# Altium footprint library Passives.PcbLib: 62 footprints (part 1 of 4)
Each footprint in its own frame and in the unit in brackets; x right, y up, seen from the top. Pads: shape width x height; smd on the part's side, far side on the other; paste and mask are expansions set on the pad; w line width, h text height; cw(c..) or ccw(c..) is an arc to the next point about the centre after c.
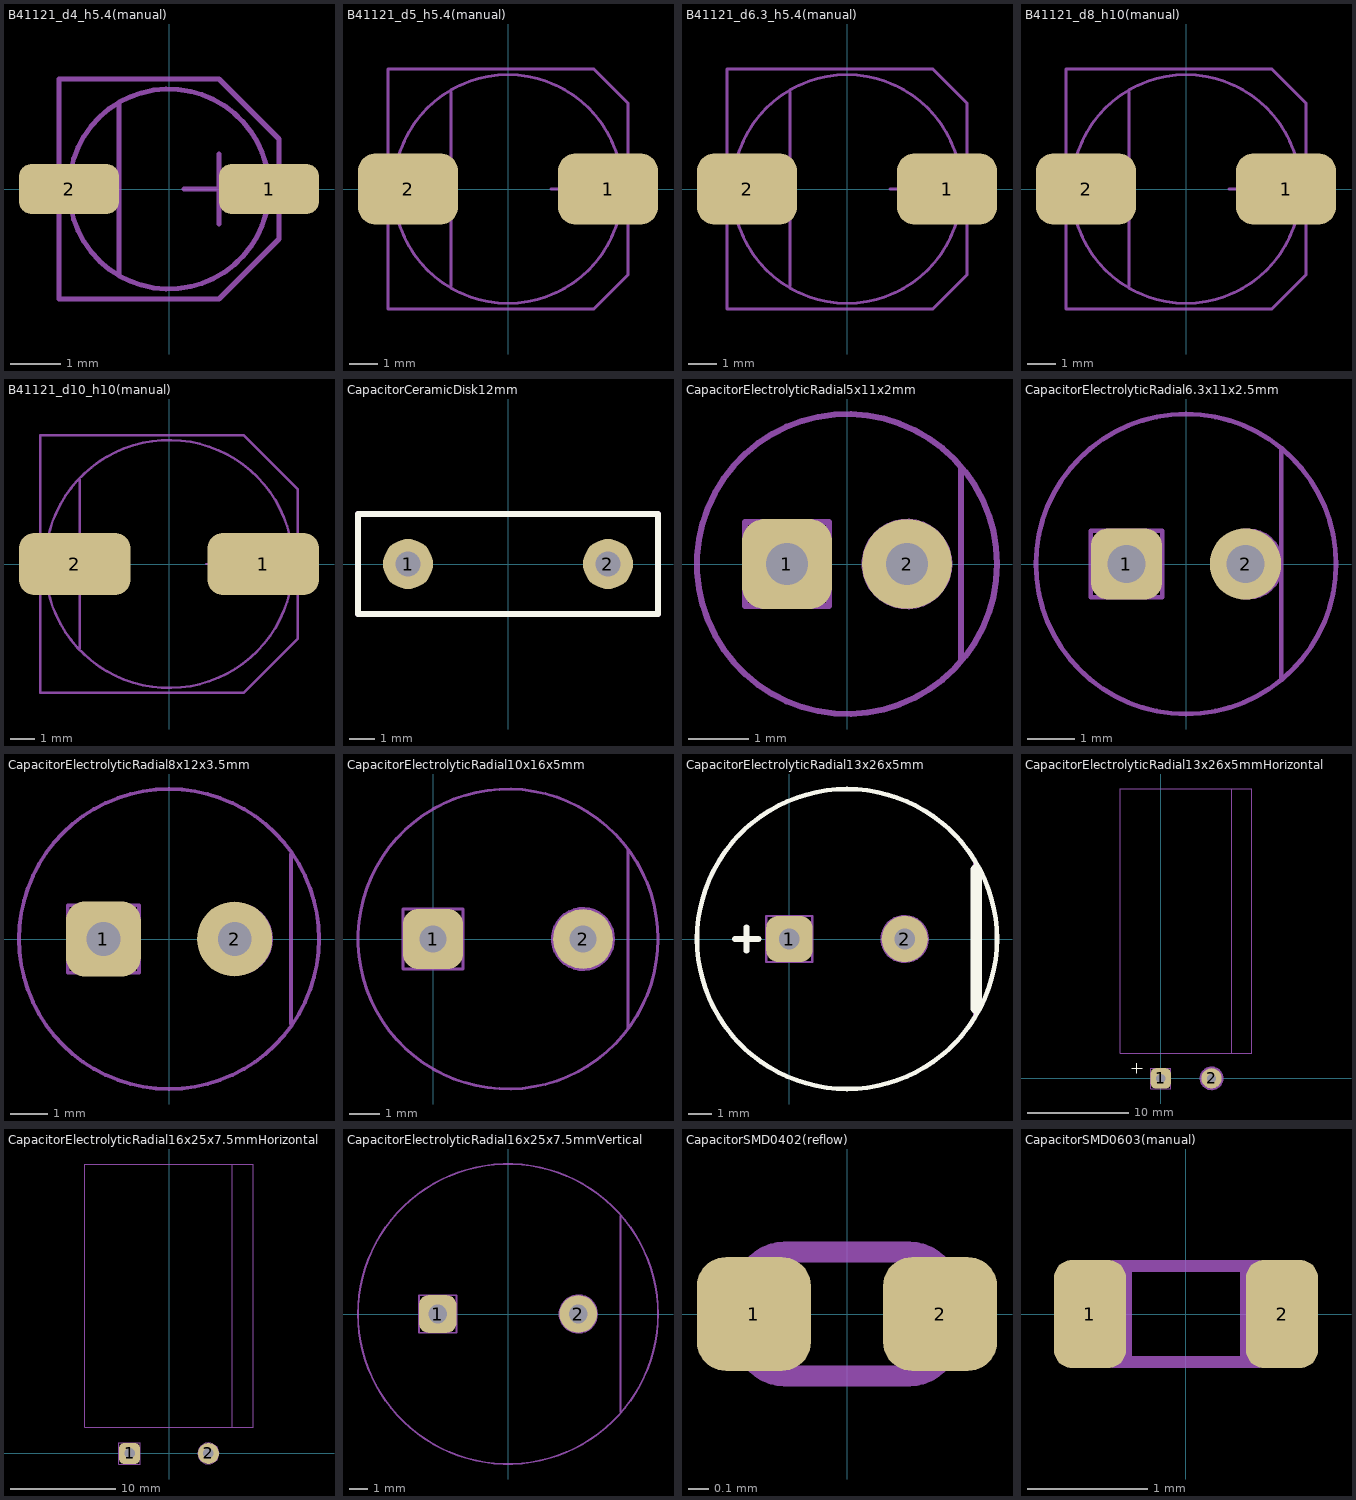
[diagram p0: the footprints below, top view; thin cyan lines are the x and y axes]

## B41121_d4_h5.4(manual) [mm]
pads (2):
  rrect50% 2x1 smd: 1(2,0) 2(-2,0)
Mechanical 1:
  circle w0.1: c0,0 r2
  lines w0.1: -1,-1.7 -1,1.7 ; 0.3,0 1.7,0 ; 1,-0.7 1,0.7 ; -2.2,-2.2 1,-2.2 2.2,-1 2.2,-0.5 2.2,1 1,2.2 -2.2,2.2 -2.2,-2.2
Mechanical 13:
  text ".Designator" at -0.9,-2.4 h1
3D body: height 1, standoff 0, extent -2.2,1 -1,2.2
3D body: height 1, standoff 0, extent -2.2,-2.2 -1,-1
3D body: height 0.5, standoff 0, extent -2.2,-2.2 2.2,2.2
3D body: height 5.4, standoff 0.1, extent -1.984,-1.996 2,1.996
3D body: height 5.5, standoff 5.4, extent -1.9,-1.35 -1.05,1.35

## B41121_d5_h5.4(manual) [mm]
pads (2):
  rrect50% 3.5x2.5 smd: 1(3.5,0) 2(-3.5,0)
Mechanical 1:
  circle w0.1: c0,0 r4
  lines w0.1: -2,-3.4 -2,3.4 ; 1.5,0 3.5,0 ; 2.5,-1 2.5,1 ; -4.2,-4.2 -4.2,4.2 3,4.2 4.2,3 4.2,-3 3,-4.2 -4.2,-4.2
Mechanical 13:
  text ".Designator" at -0.9,-2.4 h1
3D body: height 10.1, standoff 10, extent -3.5,-3 -2,3
3D body: height 10, standoff 0, extent -3.968,-3.992 4,3.992
3D body: height 1, standoff 0, extent -4.2,-4.2 4.2,4.2
3D body: height 2, standoff 0, extent -4.2,-4.2 -1.6,-1.6
3D body: height 2, standoff 0, extent -4.2,1.6 -1.6,4.2

## B41121_d6.3_h5.4(manual) [mm]
pads (2):
  rrect50% 3.5x2.5 smd: 1(3.5,0) 2(-3.5,0)
Mechanical 1:
  circle w0.1: c0,0 r4
  lines w0.1: -2,-3.4 -2,3.4 ; 1.5,0 3.5,0 ; 2.5,-1 2.5,1 ; -4.2,-4.2 -4.2,4.2 3,4.2 4.2,3 4.2,-3 3,-4.2 -4.2,-4.2
Mechanical 13:
  text ".Designator" at -0.9,-2.4 h1
3D body: height 10.1, standoff 10, extent -3.5,-3 -2,3
3D body: height 10, standoff 0, extent -3.968,-3.992 4,3.992
3D body: height 1, standoff 0, extent -4.2,-4.2 4.2,4.2
3D body: height 2, standoff 0, extent -4.2,-4.2 -1.6,-1.6
3D body: height 2, standoff 0, extent -4.2,1.6 -1.6,4.2

## B41121_d8_h10(manual) [mm]
pads (2):
  rrect50% 3.5x2.5 smd: 1(3.5,0) 2(-3.5,0)
Mechanical 1:
  circle w0.1: c0,0 r4
  lines w0.1: -2,-3.4 -2,3.4 ; 1.5,0 3.5,0 ; 2.5,-1 2.5,1 ; -4.2,-4.2 -4.2,4.2 3,4.2 4.2,3 4.2,-3 3,-4.2 -4.2,-4.2
Mechanical 13:
  text ".Designator" at -0.9,-2.4 h1
3D body: height 10.1, standoff 10, extent -3.5,-3 -2,3
3D body: height 10.1, standoff 0.1, extent -3.968,-3.992 4,3.992
3D body: height 1, standoff 0, extent -4.2,-4.2 4.2,4.2
3D body: height 2, standoff 0, extent -4.2,-4.2 -1.6,-1.6
3D body: height 2, standoff 0, extent -4.2,1.6 -1.6,4.2

## B41121_d10_h10(manual) [mm]
pads (2):
  rrect50% 4.5x2.5 smd: 1(3.8,0) 2(-3.8,0)
Mechanical 1:
  circle w0.1: c0,0 r5
  lines w0.1: -3.6,-3.4 -3.6,3.4 ; 1.5,0 3.5,0 ; 2.5,-1 2.5,1 ; -5.2,-5.2 3,-5.2 5.2,-3 5.2,3 3,5.2 -5.2,5.2 -5.2,-5.2
Mechanical 13:
  text ".Designator" at -0.9,-2.4 h1
3D body: height 2, standoff 0, extent -5.2,2.6 -2.6,5.2
3D body: height 2, standoff 0, extent -5.2,-5.2 -2.6,-2.6
3D body: height 1, standoff 0, extent -5.2,-5.2 5.2,5.2
3D body: height 10.1, standoff 0.1, extent -4.96,-4.99 5,4.99
3D body: height 10.1, standoff 10, extent -4.55,-3.55 -2.5,3.55

## CapacitorCeramicDisk12mm [mm]
pads (2):
  round 2 hole 1: 1(-4,0) 2(4,0)
Top Overlay:
  lines w0.254: -6,-2 -6,2 6,2 6,-2 -6,-2
Mechanical 1:
  lines w0.254: -6,-2 -6,2 6,2 6,-2 -6,-2
3D body: height 13.99, standoff 2.01, extent -6,-2 5.953,2

## CapacitorElectrolyticRadial5x11x2mm [mm]
height 12
pads (2):
  rrect50% 1.5x1.5 hole 0.7: 1(-1,0)
  round 1.5 hole 0.7: 2(1,0)
Mechanical 1:
  circle w0.1: c0,0 r2.5
  lines w0.1: 1.9,-1.6 1.9,1.6
Mechanical 4:
  circle w0.1: c1,0 r0.707
  lines w0.1: -1.7,-0.7 -0.3,-0.7 -0.3,0.7 -1.7,0.7 -1.7,-0.7
Mechanical 13:
  text ".Designator" at -1.75,1.75 h1
3D body: height 11, standoff 0, extent -2.49,-2.49 2.49,2.5

## CapacitorElectrolyticRadial6.3x11x2.5mm [mm]
height 12
pads (2):
  rrect50% 1.5x1.5 hole 0.8: 1(-1.25,0)
  round 1.5 hole 0.8: 2(1.25,0)
Mechanical 1:
  circle w0.1: c0,0 r3.15
  lines w0.1: 2,-2.4 2,2.4
Mechanical 4:
  circle w0.1: c1.3,0 r0.7
  lines w0.1: -2,-0.7 -0.5,-0.7 -0.5,0.7 -2,0.7 -2,-0.7
Mechanical 13:
  text ".Designator" at -1.75,1.75 h1
3D body: height 11, standoff 0, extent 3,-0.5 3.2,0.5
3D body: height 11, standoff 0, extent -3.1,-3.144 3.175,3.144

## CapacitorElectrolyticRadial8x12x3.5mm [mm]
height 12
pads (2):
  rrect50% 2x2 hole 0.9: 1(-1.75,0)
  round 2 hole 0.9: 2(1.75,0)
Mechanical 1:
  circle w0.1: c0,0 r4
  lines w0.1: 3.25,-2.25 3.25,2.25
Mechanical 4:
  circle w0.1: c1.8,0 r0.922
  lines w0.1: -2.7,-0.9 -2.7,0.9 -0.8,0.9 -0.8,-0.9 -2.7,-0.9
Mechanical 13:
  text ".Designator" at -1.75,1.75 h1
3D body: height 12, standoff 0, extent -3.984,-3.984 3.984,4
3D body: height 12, standoff 0, extent 4,-1 4.1,1

## CapacitorElectrolyticRadial10x16x5mm [mm]
height 16
pads (2):
  rrect50% 2x2 hole 0.9: 1(0,0)
  round 2 hole 0.9: 2(5,0)
Mechanical 1:
  circle w0.1: c2.5,0 r5
  lines w0.1: 6.5,-3 6.5,3
Mechanical 4:
  circle w0.1: c5,0 r1.02
  lines w0.1: -1,-1 -1,1 1,1 1,-1 -1,-1
Mechanical 13:
  text ".Designator" at 0.5,1.5 h1
3D body: height 16, standoff 0, extent -2.48,-5 7.48,4.98

## CapacitorElectrolyticRadial13x26x5mm [mm]
height 26
pads (2):
  rrect50% 2x2 hole 0.9: 1(0,0)
  round 2 hole 0.9: 2(5,0)
Top Overlay:
  circle w0.2: c2.5,0 r6.5
  lines w0.254: -2.358,0 -1.342,0 ; -1.85,-0.508 -1.85,0.508
  lines w0.5: 8.1,-3 8.1,3
Mechanical 1:
  circle w0.1: c2.5,0 r6.5
  lines w0.1: 8,-3.5 8,3.5
Mechanical 4:
  circle w0.1: c5,0 r1
  lines w0.1: -1,-1 1,-1 1,1 -1,1 -1,-1
Mechanical 13:
  text ".Designator" at 0.25,3 h1
3D body: height 26, standoff 0, extent -3.974,-6.474 8.974,6.5

## CapacitorElectrolyticRadial13x26x5mmHorizontal [mm]
height 26
pads (2):
  rrect50% 2x2 hole 0.9: 1(0,0)
  round 2 hole 0.9: 2(5,0)
Top Overlay:
  lines w0.1: -2.858,1 -1.842,1 ; -2.35,0.492 -2.35,1.508
Mechanical 1:
  circle w0.254: c5,0 r1.044
  lines w0.1: 7,2.5 7,28.5 ; -4,2.5 8.974,2.5 8.974,28.5 -4,28.5 -4,2.5 ; -1,-1 1,-1 1,1 -1,1 -1,-1
Mechanical 4:
  circle w0.1: c5,0 r1
  lines w0.1: -1,-1 1,-1 1,1 -1,1 -1,-1
3D body: height 7.5, standoff 5.5, extent 8.9,2.5 8.974,28.5
3D body: height 12.95, standoff 0, extent -4,2.5 8.974,28.5

## CapacitorElectrolyticRadial16x25x7.5mmHorizontal [mm]
height 26
pads (2):
  rrect50% 2x2 hole 1: 1(-3.75,0)
  round 2 hole 1: 2(3.75,0)
Mechanical 1:
  circle w0.1: c3.75,0 r1
  lines w0.1: 6,2.5 6,27.5 ; -8,2.5 -8,27.5 8,27.5 8,2.5 -8,2.5 ; -4.75,-1 -2.75,-1 -2.75,1 -4.75,1 -4.75,-1
Mechanical 4:
  circle w0.1: c3.75,0 r1
  lines w0.1: -4.75,-1 -2.75,-1 -2.75,1 -4.75,1 -4.75,-1
Mechanical 13:
  text ".Designator" at -3.5,3 h1
3D body: height 15.94, standoff 0, extent -7.95,2.5 8.018,27.5
3D body: height 9, standoff 7, extent 7.9,2.5 8,27.5

## CapacitorElectrolyticRadial16x25x7.5mmVertical [mm]
height 26
pads (2):
  rrect50% 2x2 hole 1: 1(-3.75,0)
  round 2 hole 1: 2(3.75,0)
Mechanical 1:
  circle w0.1: c0,0 r8
  circle w0.1: c3.75,0 r1
  lines w0.1: 6,-5.2 6,5.2 ; -4.75,-1 -4.75,1 -2.75,1 -2.75,-1 -4.75,-1
Mechanical 4:
  circle w0.1: c3.75,0 r1
  lines w0.1: -4.75,-1 -4.75,1 -2.75,1 -2.75,-1 -4.75,-1
Mechanical 13:
  text ".Designator" at -3.5,3 h1
3D body: height 25, standoff 0, extent 7.8,-1 8,1
3D body: height 25, standoff 0, extent -7.968,-8 7.969,7.969

## CapacitorSMD0402(reflow) [mm]
height 0.45
pads (2):
  rrect50% 0.55x0.55 smd: 1(-0.45,0) 2(0.45,0)
Mechanical 1:
  lines w0.1: -0.3,-0.3 cw(c-0.3,-0.1) -0.5,-0.1 -0.5,0.1 cw(c-0.3,0.1) -0.3,0.3 ; -0.3,-0.3 -0.3,0.3 ; -0.3,-0.3 0.3,-0.3 ; -0.3,0.3 0.3,0.3 ; 0.3,-0.3 ccw(c0.3,-0.1) 0.5,-0.1 0.5,0.1 ccw(c0.3,0.1) 0.3,0.3 ; 0.3,-0.3 0.3,0.3
Mechanical 13:
  text ".Designator" at -0.7,0.8 h1
3D body: height 0.2, standoff 0, extent -0.5,-0.3 -0.3,0.3
3D body: height 0.2, standoff 0, extent 0.3,-0.3 0.5,0.3
3D body: height 0.2, standoff 0, extent -0.3,-0.3 0.3,0.3

## CapacitorSMD0603(manual) [mm]
height 0.45
pads (2):
  rrect50% 0.6x0.9 smd: 1(-0.8,0) 2(0.8,0)
Mechanical 1:
  lines w0.1: -0.5,-0.4 -0.5,0.4 ; 0.5,-0.4 0.5,0.4 ; -0.8,-0.2 ccw(c-0.6,-0.2) -0.6,-0.4 0.6,-0.4 ccw(c0.6,-0.2) 0.8,-0.2 0.8,0.2 ccw(c0.6,0.2) 0.6,0.4 -0.6,0.4 ccw(c-0.6,0.2) -0.8,0.2 -0.8,-0.2
Mechanical 13:
  text ".Designator" at -1,1 h1
Mechanical 14:
  text ".Comment" at -1,1 h1
3D body: height 0.3, standoff 0, extent -0.8,-0.4 0.8,0.4